# Altium footprint library Capacitor SMD.PcbLib: 19 footprints (part 1 of 2)
Each footprint in its own frame and in the unit in brackets; x right, y up, seen from the top. Pads: shape width x height; smd on the part's side, far side on the other; paste and mask are expansions set on the pad; w line width, h text height; cw(c..) or ccw(c..) is an arc to the next point about the centre after c.
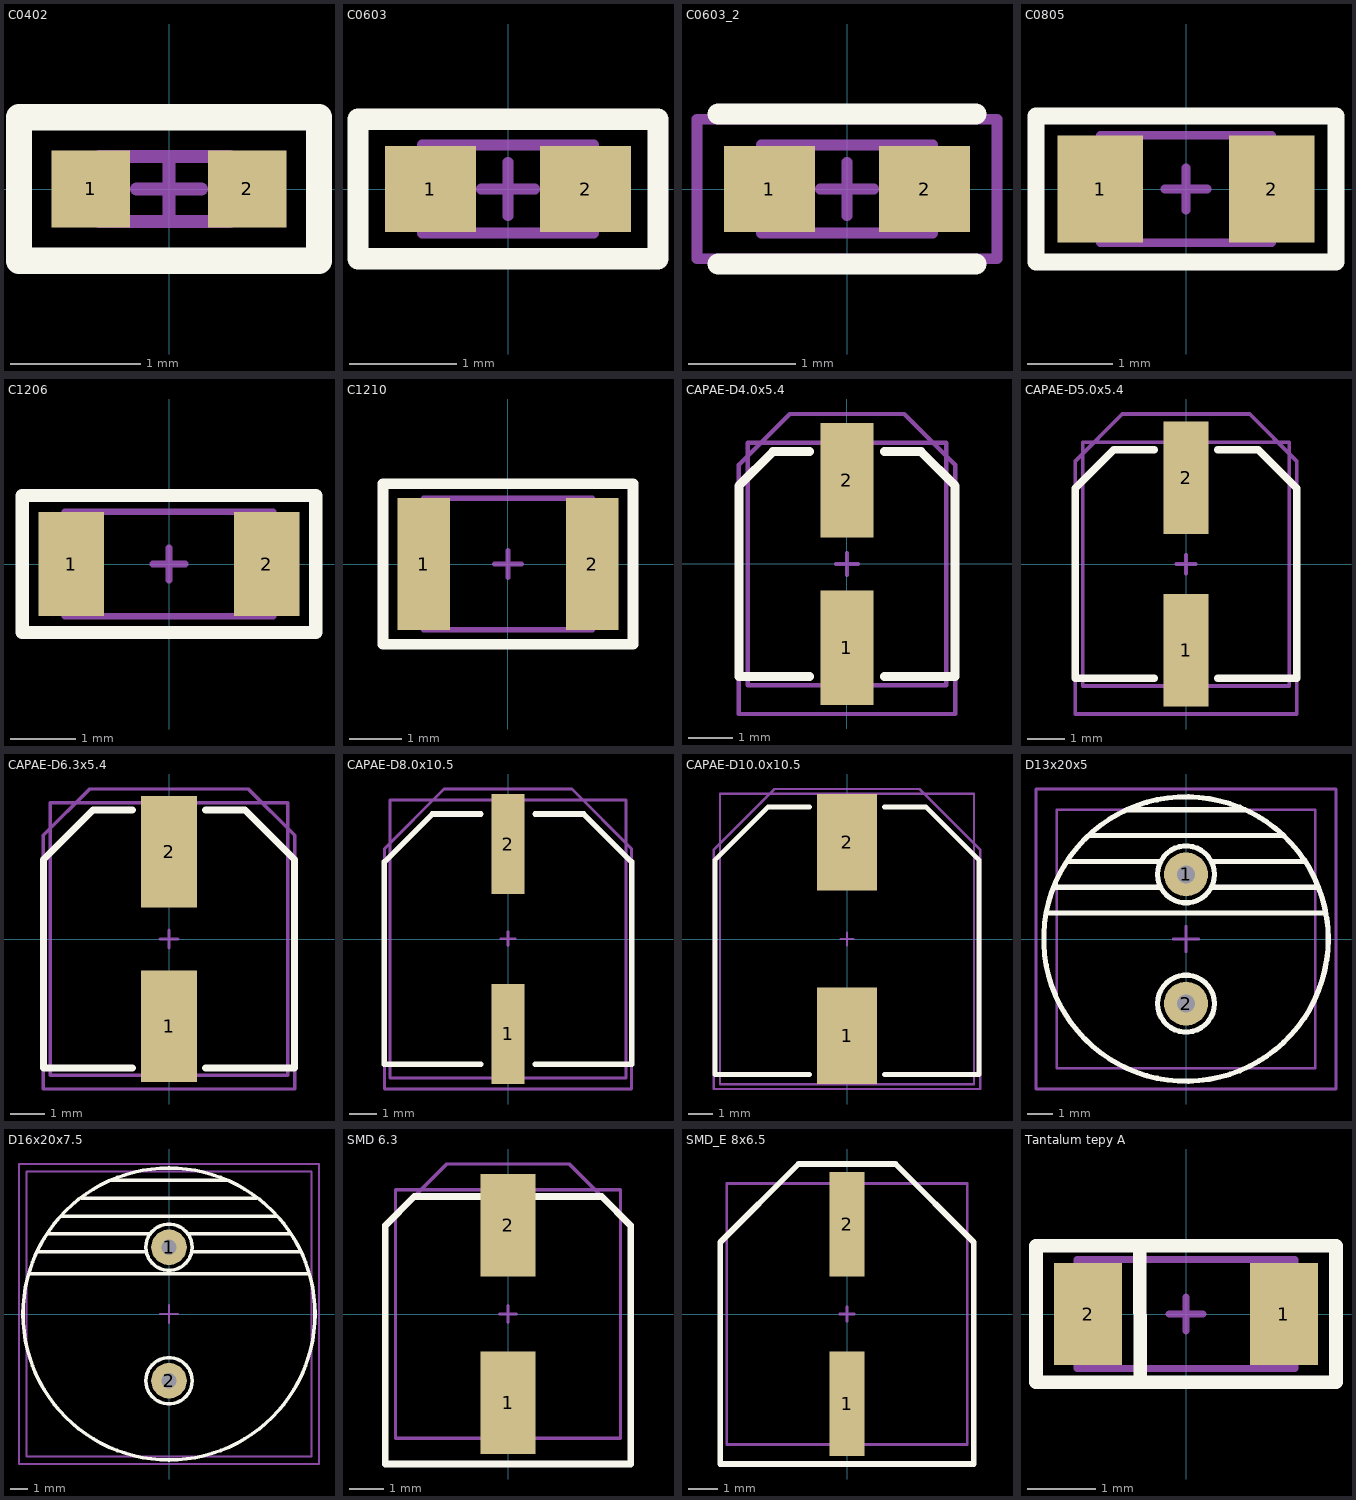
[diagram p0: the footprints below, top view; thin cyan lines are the x and y axes]

## C0402 [mm]
pads (2):
  rect 0.6x0.59 smd: 1(-0.6,0) 2(0.6,0)
Top Overlay:
  lines w0.2: -1.15,-0.55 -1.15,0.55 1.15,0.55 1.15,-0.55 -1.15,-0.55
Top Assy:
  lines w0.1: -0.532,-0.25 0.468,-0.25 0.468,0.25 -0.532,0.25 -0.532,-0.25
Border:
  lines w0.1: -0.25,0 0.25,0 ; 0,-0.25 0,0.25 ; -1.15,-0.55 -1.15,0.55 1.15,0.55 1.15,-0.55 -1.15,-0.55
3D body "User Library-SMD Ceramic Capacitors_0402 (1005)_BD.step": height 0.55, standoff 0, extent -0.5,-0.25 0.501,0.25

## C0603 [mm]
pads (2):
  rect 0.85x0.8 smd: 1(-0.725,0) 2(0.725,0)
Top Overlay:
  lines w0.2: -1.4,-0.65 -1.4,0.65 1.4,0.65 1.4,-0.65 -1.4,-0.65
Top Assy:
  lines w0.1: -0.8,-0.41 0.8,-0.41 0.8,0.41 -0.8,0.41 -0.8,-0.41
Border:
  lines w0.1: -0.25,0 0.25,0 ; 0,-0.25 0,0.25 ; -1.4,-0.65 -1.4,0.65 1.4,0.65 1.4,-0.65 -1.4,-0.65
3D body "User Library-SMD Ceramic Capacitors_0603 (1608)_CJ.step": height 0.8, standoff 0, extent -0.8,-0.4 0.801,0.4

## C0603_2 [mm]
pads (2):
  rect 0.85x0.8 smd: 1(-0.725,0) 2(0.725,0)
Top Overlay:
  lines w0.2: -1.2,-0.7 1.2,-0.7 ; -1.2,0.7 1.2,0.7
Top Assy:
  lines w0.1: -0.8,-0.41 -0.8,0.41 0.8,0.41 0.8,-0.41 -0.8,-0.41
Border:
  lines w0.1: -0.25,0 0.25,0 ; 0,-0.25 0,0.25 ; -1.4,-0.65 1.4,-0.65 1.4,0.65 -1.4,0.65 -1.4,-0.65
3D body "User Library-SMD Ceramic Capacitors_0603 (1608)_CJ.step": height 0.8, standoff 0, extent -0.8,-0.4 0.801,0.4

## C0805 [mm]
pads (2):
  rect 1x1.25 smd: 1(-1,0) 2(1,0)
Top Overlay:
  lines w0.2: -1.75,-0.85 -1.75,0.85 1.75,0.85 1.75,-0.85 -1.75,-0.85
Top Assy:
  lines w0.1: -1,-0.625 -1,0.625 1,0.625 1,-0.625 -1,-0.625
Border:
  lines w0.1: -0.25,0 0.25,0 ; 0,-0.25 0,0.25 ; -1.75,-0.85 -1.75,0.85 1.75,0.85 1.75,-0.85 -1.75,-0.85
3D body "User Library-SMD Ceramic Capacitors_0805 (2012)_DM.step": height 0.7, standoff 0, extent -1,-0.625 1.001,0.625

## C1206 [mm]
pads (2):
  rect 1x1.6 smd: 1(-1.5,0) 2(1.5,0)
Top Overlay:
  lines w0.2: -2.25,-1.05 -2.25,1.05 2.25,1.05 2.25,-1.05 -2.25,-1.05
Top Assy:
  lines w0.1: -1.6,-0.8 1.6,-0.8 1.6,0.8 -1.6,0.8 -1.6,-0.8
Border:
  lines w0.1: -0.25,0 0.25,0 ; 0,-0.25 0,0.25 ; -2.25,-1.05 -2.25,1.05 2.25,1.05 2.25,-1.05 -2.25,-1.05
3D body "User Library-SMD Ceramic Capacitors_1206 (3216)_EB.step": height 0.78, standoff 0, extent -1.64,-0.8 1.64,0.8

## C1210 [mm]
pads (2):
  rect 1x2.5 smd: 1(-1.6,0) 2(1.6,0)
Top Overlay:
  lines w0.2: -2.375,-1.525 2.375,-1.525 2.375,1.525 -2.375,1.525 -2.375,-1.525
3D Model:
  lines w0.1: -1.6,-1.25 1.6,-1.25 1.6,1.25 -1.6,1.25 -1.6,-1.25
Border:
  lines w0.1: -0.25,0 0.25,0 ; 0,-0.25 0,0.25 ; -2.375,-1.525 2.375,-1.525 2.375,1.525 -2.375,1.525 -2.375,-1.525
3D body "User Library-Ceramica Capacitors_1210.step": height 1, standoff 0, extent -1.6,-1.25 1.6,1.25

## CAPAE-D4.0x5.4 [mm]
pads (2):
  rect 1.2x2.6 smd: 1(0,-1.9)
  rect 1.2x2.6 smd mask+0.102: 2(0,1.9)
Top Overlay:
  lines w0.2: -0.85,-2.55 -2.45,-2.55 -2.45,1.775 -1.675,2.55 -0.85,2.55 ; 0.85,-2.55 2.45,-2.55 2.45,1.775 1.675,2.55 0.85,2.55
Top Assy:
  lines w0.1: -2.25,-2.75 -2.25,2.75 2.25,2.75 2.25,-2.75 -2.25,-2.75
Border:
  lines w0.1: -0.25,0 0.25,0 ; 0,-0.25 0,0.25 ; -2.45,-3.4 2.45,-3.4 2.45,2.25 1.3,3.4 -1.3,3.4 -2.45,2.25 -2.45,-3.4
3D body "CAPAE-D4.0x5.4.stp": height 5.5, standoff 0, extent -2.25,-2.75 2.25,2.75

## CAPAE-D5.0x5.4 [mm]
pads (2):
  rect 1.2x3 smd: 1(0,-2.3)
  rect 1.2x3 smd mask+0.102: 2(0,2.3)
Top Overlay:
  lines w0.2: -0.85,-3.05 -2.95,-3.05 -2.95,2.025 -1.925,3.05 -0.85,3.05 ; 0.85,-3.05 2.95,-3.05 2.95,2.025 1.925,3.05 0.85,3.05
Top Assy:
  lines w0.1: -2.75,-3.25 2.75,-3.25 2.75,3.25 -2.75,3.25 -2.75,-3.25
Border:
  lines w0.1: -0.25,0 0.25,0 ; 0,-0.25 0,0.25 ; -2.95,-4 -2.95,2.75 -1.7,4 1.7,4 2.95,2.75 2.95,-4 -2.95,-4
3D body "CAPAE-D5.0x5.4.stp": height 5.5, standoff 0, extent -2.75,-3.25 2.75,3.25

## CAPAE-D6.3x5.4 [mm]
pads (2):
  rect 1.6x3.2 smd: 1(0,-2.5)
  rect 1.6x3.2 smd mask+0.102: 2(0,2.5)
Top Overlay:
  lines w0.2: -1.05,-3.701 -3.6,-3.701 -3.6,2.275 -2.175,3.7 -1.05,3.7 ; 1.05,-3.701 3.6,-3.701 3.6,2.275 2.175,3.7 1.05,3.7
Top Assy:
  lines w0.1: -3.4,-3.9 -3.4,3.9 3.4,3.9 3.4,-3.9 -3.4,-3.9
Border:
  lines w0.1: -0.25,0 0.25,0 ; 0,-0.25 0,0.25 ; -3.6,-4.3 -3.6,2.975 -2.275,4.3 2.275,4.3 3.6,2.975 3.6,-4.3 -3.6,-4.3
3D body "CAPAE-D6.3x5.4.stp": height 5.5, standoff 0, extent -3.4,-3.9 3.4,3.9

## CAPAE-D8.0x10.5 [mm]
pads (2):
  rect 1.2x3.6 smd: 1(0,-3.413)
  rect 1.2x3.6 smd mask+0.102: 2(0,3.413)
Top Overlay:
  lines w0.2: -0.975,-4.503 -4.45,-4.503 -4.45,2.775 -2.725,4.5 -0.975,4.5 ; 0.975,-4.503 4.45,-4.503 4.45,2.775 2.725,4.5 0.975,4.5
Top Assy:
  lines w0.1: -4.25,-5 -4.25,5 4.25,5 4.25,-5 -4.25,-5
Border:
  lines w0.1: -0.25,0.013 0.25,0.013 ; 0,-0.237 0,0.263 ; -4.45,-5.4 4.45,-5.4 4.45,3.25 2.3,5.4 -2.3,5.4 -4.45,3.25 -4.45,-5.4
3D body "CAPAE-D8.0x10.2.stp": height 10.5, standoff 0, extent -4.25,-5 4.25,5

## CAPAE-D10.0x10.5 [mm]
pads (2):
  rect 2.5x4 smd: 1(0,-4) 2(0,4)
Top Overlay:
  lines w0.2: -1.55,-5.6 -5.45,-5.6 -5.45,3.275 -3.275,5.45 -1.55,5.45 ; 1.55,-5.6 5.45,-5.6 5.45,3.275 3.275,5.45 1.55,5.45
3D Model:
  lines w0.1: -5.25,-6 5.25,-6 5.25,6 -5.25,6 -5.25,-6
Border:
  lines w0.1: -0.25,0 0.25,0 ; 0,-0.25 0,0.25 ; -5.5,-6.2 5.5,-6.2 5.5,3.7 3,6.2 -3,6.2 -5.5,3.7 -5.5,-6.2
3D body "CAPAE-D10.0x10.2.stp": height 10.5, standoff 0, extent -5.25,-6 5.25,6

## D13x20x5 [mm]
pads (2):
  round 1.7 hole 0.7: 1(0,2.5) 2(0,-2.5)
Top Overlay:
  circle w0.2: c0,-2.5 r1.1
  circle w0.2: c0,2.5 r1.1
  circle w0.2: c0,0 r5.5
  lines w0.2: -5.3,1 5.3,1 ; -5.1,2 -1,2 ; -4.6,3 -1,3 ; -3.75,4 3.775,4 ; -2.275,5 2.275,5 ; 1,2 5.1,2 ; 1,3 4.6,3
Top Assy:
  lines w0.1: -5,-5 -5,5 5,5 5,-5 -5,-5
Border:
  lines w0.1: -0.5,0 0.5,0 ; 0,-0.5 0,0.5 ; -5.8,-5.8 -5.8,5.8 5.8,5.8 5.8,-5.8 -5.8,-5.8
3D body "User Library-Cap-EL(10x16-5)T.step": height 16.5, standoff -2.5, extent -4.997,-5 4.997,5.002

## D16x20x7.5 [mm]
pads (2):
  round 2 hole 0.85: 1(0,3.75) 2(0,-3.75)
Top Overlay:
  circle w0.2: c0,0 r8.2
  circle w0.2: c0,3.75 r1.3
  circle w0.2: c0,-3.75 r1.3
  lines w0.2: -7.875,2.25 7.875,2.25 ; -7.4,3.5 -1.3,3.5 ; -6.8,4.5 -1.1,4.5 ; -6,5.5 6,5.5 ; -4.9,6.5 4.9,6.5 ; -3.3,7.5 3.3,7.5 ; 1.1,4.5 6.8,4.5 ; 1.3,3.5 7.3,3.5
Top Assy:
  lines w0.1: -8,-8 -8,8 8,8 8,-8 -8,-8
Border:
  lines w0.1: -0.5,0 0.5,0 ; 0,-0.5 0,0.5 ; -8.425,-8.425 -8.425,8.425 8.425,8.425 8.425,-8.425 -8.425,-8.425
3D body "User Library-Cap-EL(16x26-7_5).step": height 26.1, standoff -4.2, extent -7.997,-8 7.997,8.002

## SMD 6.3 [mm]
pads (2):
  rect 1.6x3 smd: 1(0,-2.6)
  rect 1.6x3 smd mask+0.102: 2(0,2.6)
Top Overlay:
  lines w0.2: -3.6,-4.4 -3.6,2.6 -2.75,3.45 2.75,3.45 3.6,2.6 3.6,-4.4 -3.6,-4.4
Top Assy:
  lines w0.1: -3.3,-3.65 -3.3,3.65 3.3,3.65 3.3,-3.65 -3.3,-3.65
Border:
  lines w0.1: -0.25,0 0.25,0 ; 0,-0.25 0,0.25 ; -3.6,-4.4 -3.6,2.6 -1.8,4.4 1.8,4.4 3.6,2.6 3.6,-4.4 -3.6,-4.4
3D body "User Library-CAP SMD SVP 6_3x5_9.STEP": height 5.9, standoff 0, extent -3.3,-3.65 3.3,3.65

## SMD_E 8x6.5 [mm]
pads (2):
  rect 1.2x3.6 smd: 1(0,-3.1)
  rect 1.2x3.6 smd mask+0.102: 2(0,3.1)
Top Overlay:
  lines w0.2: -4.375,-5.175 4.375,-5.175 4.375,2.475 1.675,5.175 -1.675,5.175 -4.375,2.475 -4.375,-5.175
Top Assy:
  lines w0.1: -4.15,-4.5 -4.15,4.5 4.15,4.5 4.15,-4.5 -4.15,-4.5
Border:
  lines w0.1: -0.25,0 0.25,0 ; 0,-0.25 0,0.25 ; -4.375,-5.175 4.375,-5.175 4.375,2.475 1.675,5.175 -1.675,5.175 -4.375,2.475 -4.375,-5.175
3D body "User Library-capacitor size E.step": height 6.2, standoff -0.01, extent -4.15,-4.5 4.15,4.5

## Tantalum tepy A [mm]
pads (2):
  rect 1x1.5 smd: 1(1.436,0) 2(-1.436,0)
Top Overlay:
  lines w0.2: -0.678,0.95 -0.67,-0.95 ; -2.2,-1 2.2,-1 2.2,1 -2.2,1 -2.2,-1
Top Assy:
  lines w0.1: -1.6,-0.8 -1.6,0.8 1.6,0.8 1.6,-0.8 -1.6,-0.8
Border:
  lines w0.1: -0.25,0 0.25,0 ; 0,-0.25 0,0.25 ; -2.2,-1 -2.2,1 2.2,1 2.2,-1 -2.2,-1
3D body "User Library-CaseA_3216-18.step": height 1.6, standoff 0, extent -1.6,-0.8 1.6,0.8